# Altium schematic symbol library Schlib1.SchLib: 823 symbols (part 1 of 12)
Pins are listed as number, name and electrical type; pins without a type are passive.

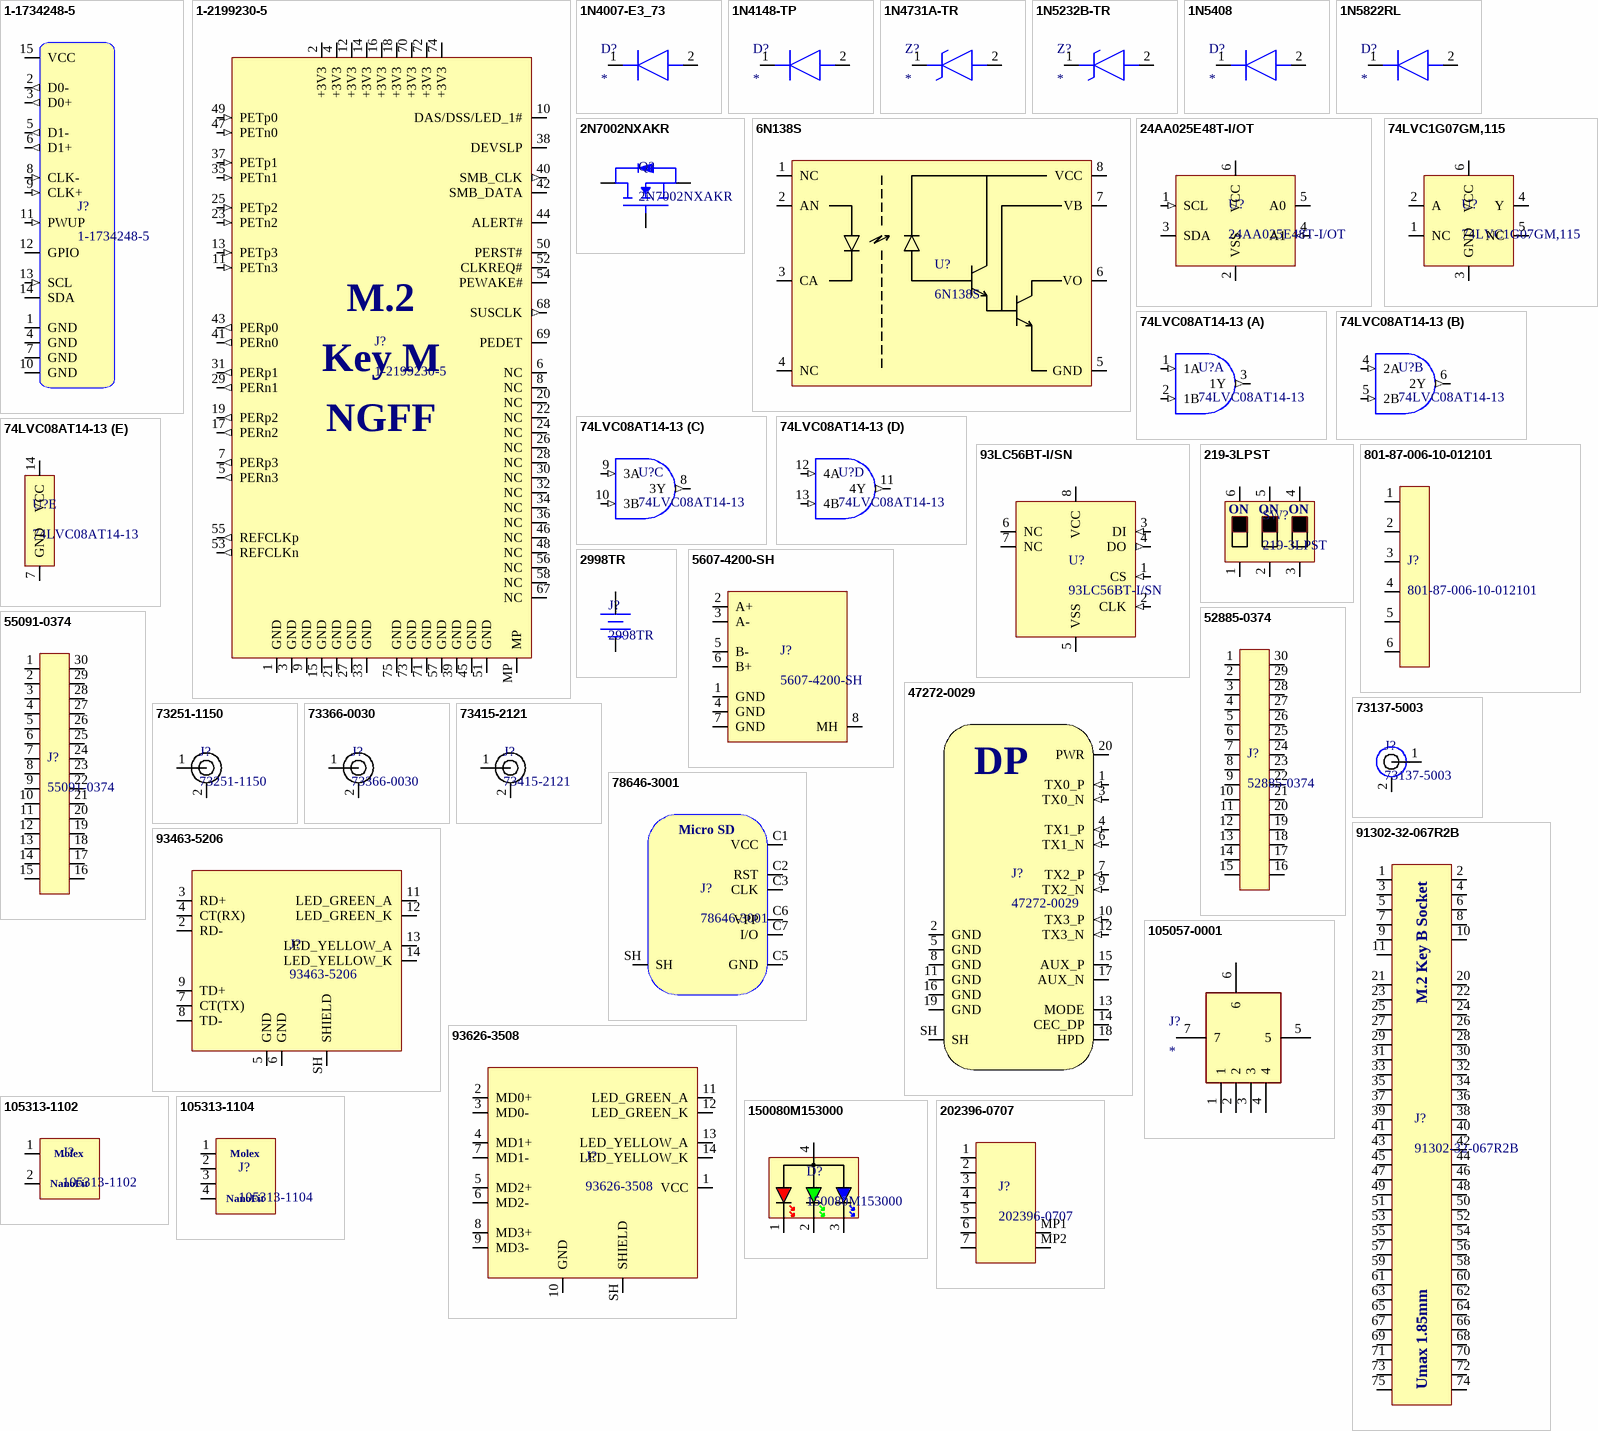
[diagram p0: symbols 1-1734248-5 to 202396-0707]

## 1-1734248-5
designator J?
FFC & FPC Connectors 15P 1.0 FPC, Zip V/T SMT; Manufacturer: TE Connectivity; Manufacturer Part Number: 1-1734248-5; Distributor Link: https://www.mouser.de/ProductDetail/TE-Connectivity/1-1734248-5?qs=sGAEpiMZZMvlX3nhDDO4AGJoiHpVI%252BrLj36UQiWnLiQ%3D; LCSC: C2922285
footprint 1-1734248-5
pins: 1 GND (power), 2 D0- (out), 3 D0+ (out), 4 GND (power), 5 D1- (out), 6 D1+ (out), 7 GND (power), 8 CLK- (in), 9 CLK+ (in), 10 GND (power), 11 PWUP (in), 12 GPIO (io), 13 SCL (in), 14 SDA (io), 15 VCC (power)

## 1-2199230-5
designator J?  (no BOM)
M.2 NGFF Key M Card Edge Connector 0.5mm Pitch 67 Position 4.2mm Height; Manufacturer: TE Connectivity; Manufacturer Part Number: 1-2199230-5; Distributor Link: https://eu.mouser.com/ProductDetail/TE-Connectivity/1-2199230-5?qs=N0TJGnUfxCD5L9UvFjPEwQ%3D%3D; LCSC: C590854
footprint 1-2199230-5
pins: 1 GND (power), 2 +3V3 (power), 3 GND (power), 4 +3V3 (power), 5 PERn3 (out), 6 NC, 7 PERp3 (out), 8 NC, 9 GND (power), 10 DAS/DSS/LED_1#, 11 PETn3 (in), 12 +3V3 (power), 13 PETp3 (in), 14 +3V3 (power), 15 GND (power), 16 +3V3 (power), 17 PERn2 (out), 18 +3V3 (power), 19 PERp2 (out), 20 NC, 21 GND (power), 22 NC, 23 PETn2 (in), 24 NC, 25 PETp2 (in), 26 NC, 27 GND (power), 28 NC, 29 PERn1 (out), 30 NC, 31 PERp1 (out), 32 NC, 33 GND (power), 34 NC, 35 PETn1 (in), 36 NC, 37 PETp1 (in), 38 DEVSLP, 39 GND (power), 40 SMB_CLK (out), 41 PERn0 (out), 42 SMB_DATA (io), 43 PERp0 (out), 44 ALERT#, 45 GND (power), 46 NC, 47 PETn0 (in), 48 NC, 49 PETp0 (in), 50 PERST#, 51 GND (power), 52 CLKREQ#, 53 REFCLKn (out), 54 PEWAKE#, 55 REFCLKp (out), 56 NC, 57 GND (power), 58 NC, 67 NC, 68 SUSCLK (out), 69 PEDET, 70 +3V3 (power), 71 GND (power), 72 +3V3 (power), 73 GND (power), 74 +3V3 (power), 75 GND (power), MP (power)
text: M.2; Key M; NGFF

## 1N4007-E3_73
designator D?
Diode; Manufacturer_Name: Vishay; Manufacturer_Part_Number: 1N4007-E3/73; Datasheet Link: https://mouser.componentsearchengine.com/Datasheets/2/1N4007-E3_73.pdf; Mouser Part Number: 625-1N4007-E3/73; Mouser Price/Stock: https://www.mouser.co.uk/ProductDetail/Vishay-General-Semiconductor/1N4007-E3-73?qs=N4vtoAxH%2FSqT3Ng3e4K0Gw%3D%3D; Arrow Part Number: 1N4007-E3/73; Arrow Price/Stock: https://www.arrow.com/en/products/1n4007-e373/vishay?utm_currency=USD&region=europe
footprint DIOAD1405W86L465D235
pins: 1 K, 2 A

## 1N4148-TP
designator D?
Diode; Manufacturer_Name: MCC; Manufacturer_Part_Number: 1N4148-TP; Datasheet Link: https://datasheet.datasheetarchive.com/originals/distributors/Datasheets_SAMA/a133e21e9f85d77be1f89cbddda842d3.pdf; Mouser Part Number: 833-1N4148-TP; Mouser Price/Stock: https://www.mouser.co.uk/ProductDetail/Micro-Commercial-Components-MCC/1N4148-TP?qs=WKjw%2FjEc%2FjNjhjv2m2YYjw%3D%3D; Arrow Part Number: 1N4148-TP; Arrow Price/Stock: https://www.arrow.com/en/products/1n4148-tp/micro-commercial-components?region=nac
footprint DIOAD1220W52L420D200
pins: 1 K, 2 A

## 1N4731A-TR
designator Z?
Zener Diode; Manufacturer_Name: Vishay; Manufacturer_Part_Number: 1N4731A-TR; Datasheet Link: https://datasheet.datasheetarchive.com/originals/distributors/Datasheets-314/271599.pdf; Mouser Part Number: 78-1N4731A; Mouser Price/Stock: https://www.mouser.co.uk/ProductDetail/Vishay-Semiconductors/1N4731A-TR?qs=oNDV51lhjEN87sfLnBRrvg%3D%3D; Arrow Part Number: 1N4731A-TR; Arrow Price/Stock: https://www.arrow.com/en/products/1n4731a-tr/vishay
footprint DIOAD1310W86L370D235
pins: 1 K, 2 A

## 1N5232B-TR
designator Z?
Zener Diode; Manufacturer_Name: Vishay; Manufacturer_Part_Number: 1N5232B-TR; Datasheet Link: https://www.vishay.com/docs/85588/1n5221.pdf; Mouser Part Number: 78-1N5232B; Mouser Price/Stock: https://www.mouser.co.uk/ProductDetail/Vishay-Semiconductors/1N5232B-TR?qs=TNTIDjy6APrTslQIiZV26Q%3D%3D; Arrow Part Number: 1N5232B-TR; Arrow Price/Stock: https://www.arrow.com/en/products/1n5232b-tr/vishay?region=nac
footprint DIOAD990W55L350D160
pins: 1 K, 2 A

## 1N5408
designator D?
Diode; Manufacturer_Name: HY Electronic; Manufacturer_Part_Number: 1N5408; Datasheet Link: http://uk.rs-online.com/web/p/products/9033315
footprint DIOAD3020W130L900D530
pins: 1 K, 2 A

## 1N5822RL
designator D?
Diode; Manufacturer_Name: STMicroelectronics; Manufacturer_Part_Number: 1N5822RL; Datasheet Link: http://www.st.com/web/en/resource/technical/document/datasheet/CD00001626.pdf; Mouser Part Number: 511-1N5822-TR; Mouser Price/Stock: https://www.mouser.co.uk/ProductDetail/STMicroelectronics/1N5822RL?qs=7w4CAYqbMj3Og2p4%2Fm2SJg%3D%3D; Arrow Part Number: 1N5822RL; Arrow Price/Stock: https://www.arrow.com/en/products/1n5822rl/stmicroelectronics?region=europe
footprint DIOAD3070W130L950D530
pins: 1 K, 2 A

## 2N7002NXAKR
designator Q?
MOSFET N-Channel Vds=60V Id=300mA with ESD Protection; Manufacturer: Nexperia; Manufacturer Part Number: 2N7002NXAKR
footprint SSM3J338R,LF-SOT23-F
pins: D, G, S

## 6N138S
designator U?
Single-Channel, High-Speed Optocoupler; Manufacturer: Lite-On; Manufacturer Part Number: 6N138S; Distributor Link: https://www.mouser.de/ProductDetail/Lite-On/6N138S?qs=PByDJ0nQNwpiJNZ8Mk8Kdw%3D%3D
footprint SMD-8
pins: 1 NC, 2 AN, 3 CA, 4 NC, 5 GND (power), 6 VO (oc), 7 VB (power), 8 VCC (power)

## 24AA025E48T-I/OT
designator U?
2-Kbit I2C Serial EEPROMs with EUI-48™ Node Identity; Manufacturer: Microchip; Manufacturer Part Number: 24AA025E48T-I/OT; Distributor Link: https://www.mouser.de/ProductDetail/Microchip-Technology/24AA025E48T-I-OT?qs=GCDK0xhvQh4RRiPFFnzHdA%3D%3D; LCSC: C129895
footprint SOT-23-6
pins: 1 SCL (in), 2 VSS (power), 3 SDA (io), 4 A1 (in), 5 A0 (power), 6 VCC (power)

## 74LVC1G07GM,115
designator U?
Open-Drain Buffer 3.3V/5V Non-Inverting XSON-6; Manufacturer: Nexperia; Manufacturer Part Number: 74LVC1G07GM,115
footprint XSON-6-SOT1202 (SON, 6-Leads, Body 0.98x1.00mm, Pitch 0.35mm, IPC Medium Density)
pins: 1 NC, 2 A, 3 GND, 4 Y, 5 NC, 6 VCC

## 74LVC08AT14-13
designator U?
QUADRUPLE 2-INPUT CMOS AND GATES; Manufacturer: Diodes Incorporated; Manufacturer Part Number: 74LVC08AT14-13; Distributor Link: https://eu.mouser.com/ProductDetail/Diodes-Incorporated/74LVC08AT14-13?qs=ZtY9WdtwX5535dJGuTpaIA%3D%3D
footprint TSSOP-14
part A pins: 1 1A (in), 2 1B (in), 3 1Y (out)
part B pins: 4 2A (in), 5 2B (in), 6 2Y (out)
part C pins: 8 3Y (out), 9 3A (in), 10 3B (in)
part D pins: 11 4Y (out), 12 4A (in), 13 4B (in)
part E pins: 7 GND (power), 14 VCC (power)

## 93LC56BT-I/SN
designator U?
2K Microwire Compatible Serial EEPROM; Manufacturer: Microchip; Manufacturer Part Number: 93LC56BT-I/SN; Distributor Link: https://www.mouser.de/ProductDetail/Microchip-Technology/93LC56BT-I-SN?qs=lQv0JY93vreW%252BBssv4v8RA%3D%3D; LCSC: C6164
footprint SOIC-8 (SOIC, 8-Leads, Body 4.91x3.90mm, Pitch 1.27mm, IPC Medium Density)
pins: 1 CS (in), 2 CLK (in), 3 DI (in), 4 DO (out), 5 VSS (power), 6 NC, 7 NC, 8 VCC (power)

## 219-3LPST
designator SW?
DIP Switches SPST 3x; Manufacturer: CTS; Manufacturer Part Number: 219-3LPST
footprint 219-3LPST
pins: 1, 2, 3, 4, 5, 6
text: ON

## 801-87-006-10-012101
designator J?
Pin Socket 6 Position 2.54mm Pitch; Manufacturer: preci-dip; Manufacturer Part Number: 801-87-006-10-012101
footprint 801-87-006-10-012101
pins: 1, 2, 3, 4, 5, 6

## 2998TR
designator J?
Coin Cell Battery Holder 6.8mm; Manufacturer: Keystone Electronics; Manufacturer Part Number: 2998TR
footprint 2998TR (6.8mm Coin Cell Holder SMD)
pins: A, K

## 5607-4200-SH
designator J?
SATA Connector 7-Position 1.27mm Pitch Male Right Angle SMD; Manufacturer: 3M; Manufacturer Part Number: 5607-4200-SH
footprint 5607-4200-SH
pins: 1 GND, 2 A+, 3 A-, 4 GND, 5 B-, 6 B+, 7 GND, 8 MH

## 47272-0029
designator J?
DisplayPort Male Receptacle, Right-Angle, Surface Mount, 0.76µm Gold (Au) Plating, 20 Circuits, 0.50mm Pitch, without Cover, Lead-Free; Manufacturer: Molex; Manufacturer Part Number: 47272-0029; Distributor Link: https://eu.mouser.com/ProductDetail/Molex/47272-0029?qs=R8Vl3J6srxyrbHtT7SkUeQ%3D%3D
footprint 47272-0029
pins: 1 TX0_P (in), 2 GND (power), 3 TX0_N (in), 4 TX1_P (in), 5 GND (power), 6 TX1_N (in), 7 TX2_P (in), 8 GND (power), 9 TX2_N (in), 10 TX3_P (in), 11 GND (power), 12 TX3_N (in), 13 MODE, 14 CEC_DP, 15 AUX_P (io), 16 GND (power), 17 AUX_N (io), 18 HPD, 19 GND (power), 20 PWR (power), SH
text: DP

## 52885-0374
designator J?
SlimStack Board-to-Board Connector, 0.635mm Pitch, 0.635 Series, Receptacle, 6.00 to 10.00mm Mated Height, 6.40mm Mated Width, 30 Circuits; Manufacturer: Molex; Manufacturer Part Number: 52885-0374
footprint 52885-0374
pins: 1, 2, 3, 4, 5, 6, 7, 8, 9, 10, 11, 12, 13, 14, 15, 16, 17, 18, 19, 20, 21, 22, 23, 24, 25, 26, 27, 28, 29, 30

## 55091-0374
designator J?
SlimStack Board-to-Board Connector, 0.635mm Pitch, 0.635 Series, Plug, 6.00 or 12.00mm Mated Height, 6.40mm Mated Width, 30 Circuits; Manufacturer: Molex; Manufacturer Part Number: 55091-0374
footprint 55091-0374
pins: 1, 2, 3, 4, 5, 6, 7, 8, 9, 10, 11, 12, 13, 14, 15, 16, 17, 18, 19, 20, 21, 22, 23, 24, 25, 26, 27, 28, 29, 30

## 73137-5003
designator J?
BNC 50 Ohm, Right-Angle PCB Bulkhead Jack Receptacle, Panel Isolated, Black PBT Housing, Housing Height 13.20mm; Manufacturer: Molex; Manufacturer Part Number: 73137-5003
footprint 73137-5003
pins: 1, 2

## 73251-1150
designator J?
RF Connector 50 Ohms, SMA Jack Receptacle, Edge Mount, .25µm Gold (Au) Plating; Manufacturer: Molex; Manufacturer Part Number: 73251-1150
footprint 73251-1150
pins: 1, 2

## 73366-0030
designator J?
50 Ohms, MCX PCB Jack Receptacle, Right-Angle, 80; Manufacturer: Molex; Manufacturer Part Number: 73366-0030
footprint 73366-0030
pins: 1, 2

## 73415-2121
designator J?
RF Connector 50 Ohms, MMCX Vertical Plug, PCB, Plating Per Commercial Requirements, Bulk; Manufacturer: Molex; Manufacturer Part Number: 73415-2121
footprint 73415-2121
pins: 1, 2

## 78646-3001
designator J?
micro-SIM Card Socket without Detect Switch, 1.45mm Height, Push-Pull Eject, Surface Mount, 6 Circuits, Low-Halogen, Lead-Free; Manufacturer: Molex; Manufacturer Part Number: 78646-3001
footprint 78646-3001
pins: C1 VCC, C2 RST, C3 CLK, C5 GND, C6 VPP, C7 I/O, SH
text: Micro SD

## 91302-32-067R2B
designator J?
M.2 Key B Card Edge Connector 67 Position 0.5mm Pitch 1.85mm Card Height; Manufacturer: Umax; Manufacturer Part Number: 91302-32-067R2B; Distributor Link: https://www.lcsc.com/product-detail/Card-Edge-Connectors_UMAX-91302-32-067R2B_C1509731.html; LCSC: C1509731
footprint 91302-32-067R2B
pins: 1, 2, 3, 4, 5, 6, 7, 8, 9, 10, 11, 20, 21, 22, 23, 24, 25, 26, 27, 28, 29, 30, 31, 32, 33, 34, 35, 36, 37, 38, 39, 40, 41, 42, 43, 44, 45, 46, 47, 48, 49, 50, 51, 52, 53, 54, 55, 56, 57, 58, 59, 60, 61, 62, 63, 64, 65, 66, 67, 68, 69, 70, 71, 72, 73, 74, 75
text: M.2 Key B Socket; Umax 1.85mm

## 93463-5206
designator J?
MXMag Gigabit Ethernet 8 Core Non-PoE Single-Port RJ45 Connector, 21.40mm Depth, 3.30mm Phy Pin Length, Right-Angle, Inverted Profile, with Shield Tabs, with Green-Green LEDs, Standard Temperature, with 2kV Shield Connection, Tray; Manufacturer: Molex; Manufacturer Part Number: 93463-5206
footprint 93463-5206
pins: 2 RD- (io), 3 RD+ (io), 4 CT(RX), 5 GND (power), 6 GND (power), 7 CT(TX), 8 TD- (io), 9 TD+ (io), 11 LED_GREEN_A, 12 LED_GREEN_K, 13 LED_YELLOW_A, 14 LED_YELLOW_K, SH SHIELD (power)

## 93626-3508
designator J?
MXMag Gigabit Ethernet 8 Core Non-PoE Single-Port RJ45 Connector, 21.40mm Depth, 3.30mm Phy Pin Length, Right-Angle, Standard Profile, with Shield Tabs, with Green/Yellow-Green/Yellow LEDs, Standard Temperature, with 2kV Shield Connection; Manufacturer: Molex; Manufacturer Part Number: 93626-3508
footprint 93626-3508
pins: 1 VCC, 2 MD0+, 3 MD0-, 4 MD1+, 5 MD2+, 6 MD2-, 7 MD1-, 8 MD3+, 9 MD3-, 10 GND, 11 LED_GREEN_A, 12 LED_GREEN_K, 13 LED_YELLOW_A, 14 LED_YELLOW_K, SH SHIELD

## 105057-0001
designator J?
Connector; Manufacturer_Name: Molex; Manufacturer_Part_Number: 105057-0001; Datasheet Link: https://www.molex.com/content/dam/molex/molex-dot-com/products/automated/en-us/salesdrawingpdf/105/105057/1050570001_sd.pdf?inline; Height: 10.5mm; Mouser Part Number: 538-105057-0001; Mouser Price/Stock: https://www.mouser.co.uk/ProductDetail/Molex/105057-0001?qs=3OKVfsn1b5CF9LM7npexZw%3D%3D
footprint 1050570001
pins: 1, 2, 3, 4, 5, 6, 7

## 105313-1102
designator J?
Nano-Fit Right-Angle Header, Through Hole, 2.50mm Pitch, Single Row, 2 Circuits, Tin (Sn) Plating, Black, Glow-Wire Capable, Tray; Manufacturer: Molex; Manufacturer Part Number: 105313-1102
footprint 105313-1102
pins: 1, 2
text: NanoFit

## 105313-1104
designator J?
Nano-Fit Right-Angle Header, Through Hole, 2.50mm Pitch, Single Row, 2 Circuits, Tin (Sn) Plating, Black, Glow-Wire Capable, Tray; Manufacturer: Molex; Manufacturer Part Number: 105313-1104
footprint 105313-1104
pins: 1, 2, 3, 4
text: NanoFit

## 150080M153000
designator D?
RGB LED Common Anode SMD Diffused 0805 Top View; Manufacturer: Wurth; Manufacturer Part Number: 150080M153000; Distributor Link: https://www.mouser.de/ProductDetail/Wurth-Elektronik/150080M153000?qs=5aG0NVq1C4wI5cZ2wabu5A%3D%3D
footprint 150080M153000
pins: 1 CR, 2 CG, 3 CB, 4 AC

## 202396-0707
designator J?
1.00mm Pitch, Pico-Clasp PCB Header, Single Row, Right-Angle, Surface Mount, 0.10µm Gold Plated, Inner Positive Lock, 7 Circuits, Natural; Manufacturer: Molex; Manufacturer Part Number: 202396-0707
footprint 202396-0707
pins: 1, 2, 3, 4, 5, 6, 7, MP1, MP2

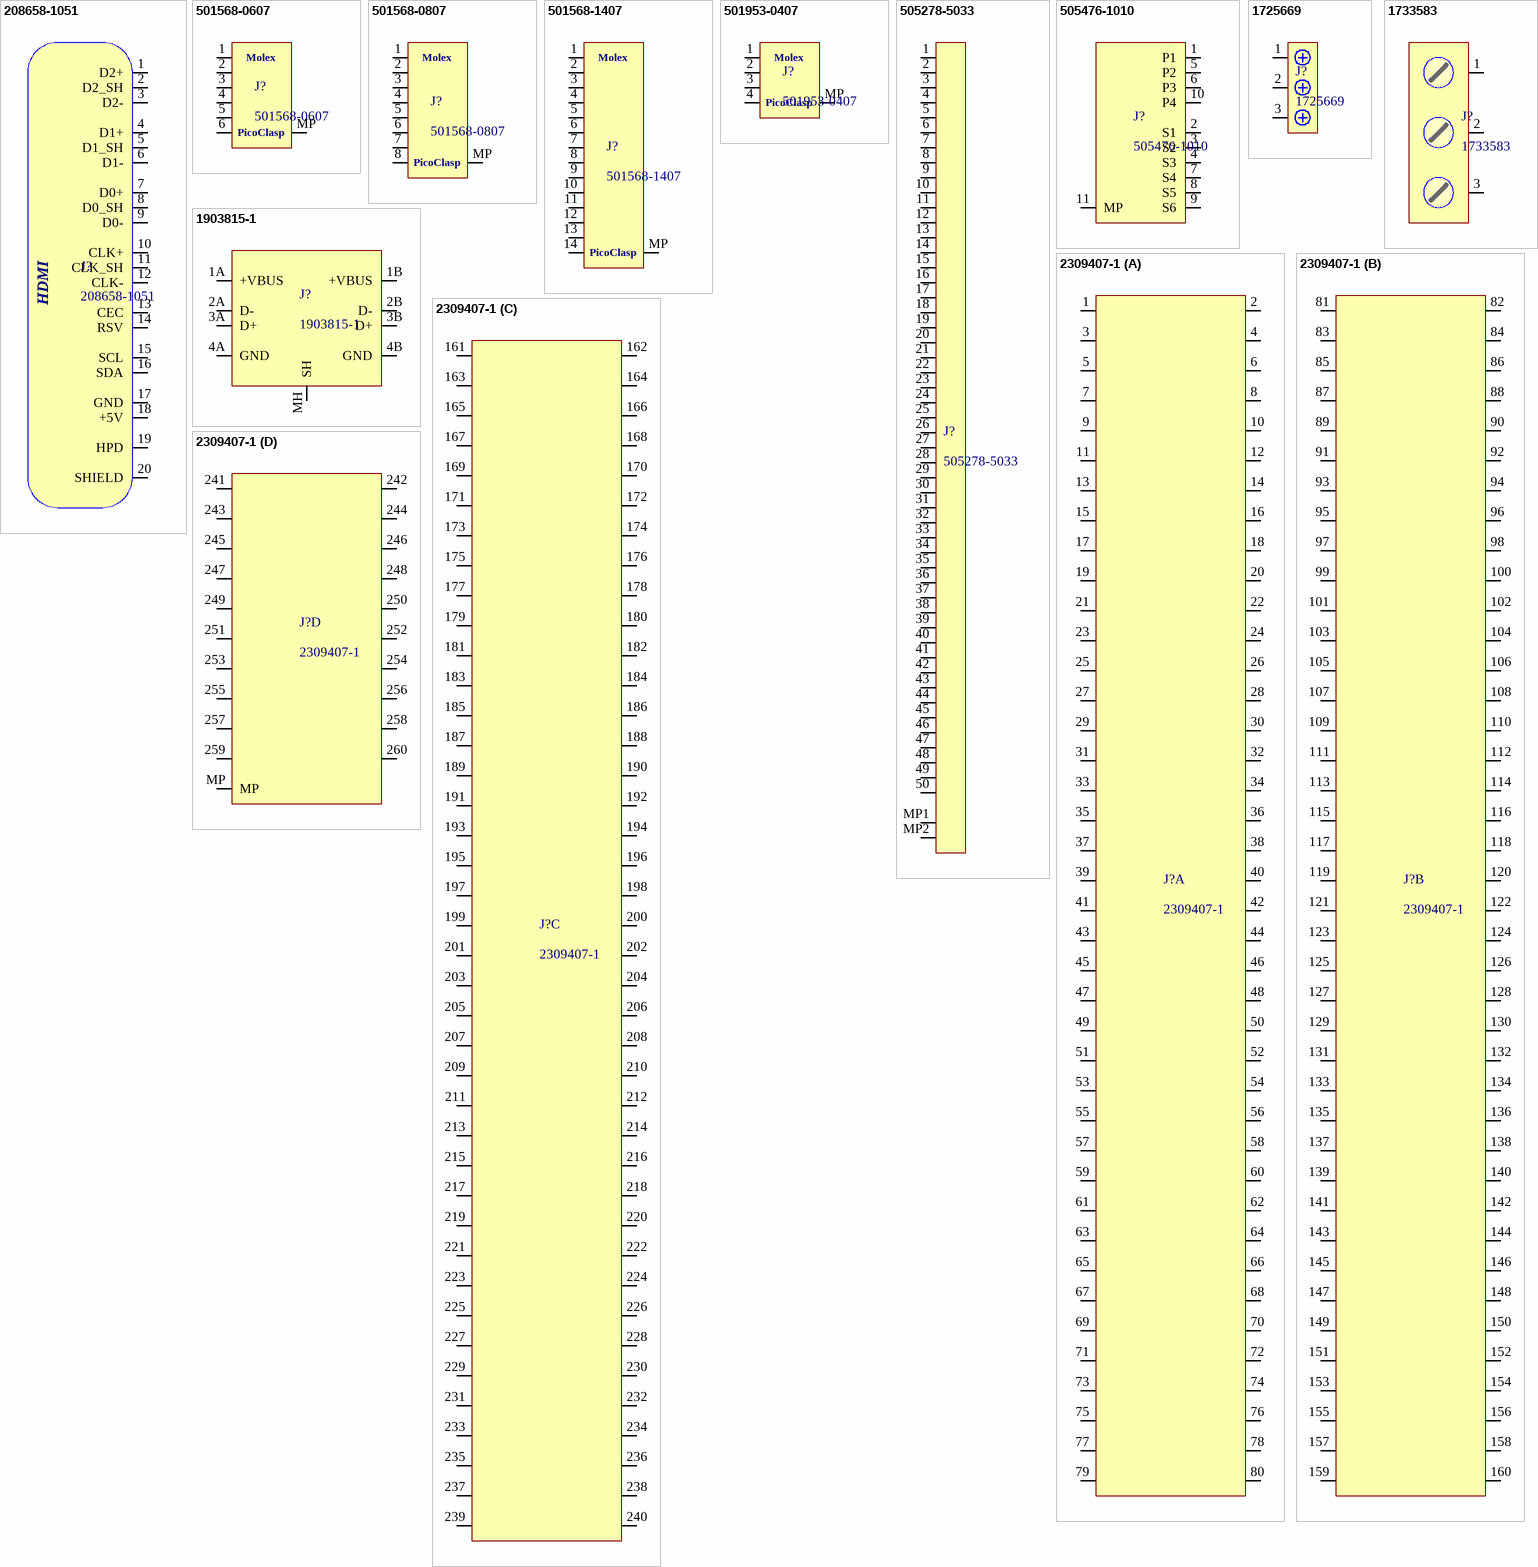
[diagram p1: symbols 208658-1051 to 2309407-1]

## 208658-1051
designator J?
HDMI v2.1 Receptacle, Right-Angle, Gold Flash Plating, without Mylar, without Flange, Tape and Reel, 19 Circuits; Manufacturer: Molex; Manufacturer Part Number: 208658-1051
footprint 208658-1051
pins: 1 D2+, 2 D2_SH, 3 D2-, 4 D1+, 5 D1_SH, 6 D1-, 7 D0+, 8 D0_SH, 9 D0-, 10 CLK+, 11 CLK_SH, 12 CLK-, 13 CEC, 14 RSV, 15 SCL, 16 SDA, 17 GND, 18 +5V, 19 HPD, 20 SHIELD
text: HDMI

## 501568-0607
designator J?
1.00mm Pitch, Pico-Clasp PCB Header, Single Row, Right-Angle, Surface Mount, Tin Plated, Outer Positive Lock, 6 Circuits, Natural; Manufacturer: Molex; Manufacturer Part Number: 501568-0607
footprint 501568-0607
pins: 1, 2, 3, 4, 5, 6, MP
text: PicoClasp

## 501568-0807
designator J?
1.00mm Pitch, Pico-Clasp PCB Header, Single Row, Right-Angle, Surface Mount, Tin Plated, Outer Positive Lock, 8 Circuits, Natural; Manufacturer: Molex; Manufacturer Part Number: 501568-0807
footprint 501568-0807
pins: 1, 2, 3, 4, 5, 6, 7, 8, MP
text: PicoClasp

## 501568-1407
designator J?
1.00mm Pitch, Pico-Clasp PCB Header, Single Row, Right-Angle, Surface Mount, Tin Plated, Outer Positive Lock, 14 Circuits, Natural; Manufacturer: Molex; Manufacturer Part Number: 501568-1407
footprint 501568-1407
pins: 1, 2, 3, 4, 5, 6, 7, 8, 9, 10, 11, 12, 13, 14, MP
text: PicoClasp

## 501953-0407
designator J?
1.00mm Pitch, Pico-Clasp PCB Header, Single Row, Right-Angle, Surface Mount, 1.01µm Tin Plated, Outer Positive Lock, 4 Circuits, Natural; Manufacturer: Molex; Manufacturer Part Number: 501953-0407
footprint 501953-0407
pins: 1, 2, 3, 4, MP
text: PicoClasp

## 505278-5033
designator J?
FFC Connector 50 Position 0.5mm Pitch Bottom Contact ZIF; Manufacturer: Molex; Manufacturer Part Number: 505278-5033
footprint 505278-5033
pins: 1, 2, 3, 4, 5, 6, 7, 8, 9, 10, 11, 12, 13, 14, 15, 16, 17, 18, 19, 20, 21, 22, 23, 24, 25, 26, 27, 28, 29, 30, 31, 32, 33, 34, 35, 36, 37, 38, 39, 40, 41, 42, 43, 44, 45, 46, 47, 48, 49, 50, MP1, MP2

## 505476-1010
designator J?
SlimStack Board-to-Board Plug, 0.40mm Pitch, Battery Series, 0.60mm Mated Height, 2.00mm Mated Width, 10 Circuits, 10.0A; Manufacturer: Molex; Manufacturer Part Number: 505476-1010
footprint 505476-1010
pins: 1 P1 (power), 2 S1 (io), 3 S2 (io), 4 S3 (io), 5 P2 (power), 6 P3 (power), 7 S4 (io), 8 S5 (io), 9 S6 (io), 10 P4 (power), 11 MP

## 1725669
designator J?
Screw Terminal Block 3 Positions 2.54mm; Manufacturer: Phoenix; Manufacturer Part Number: 1725669; Distributor Link: https://www.mouser.de/ProductDetail/Phoenix-Contact/1725669?qs=A%2FKWGUWTCZjmkTL0Oe91ew%3D%3D
footprint 1725669
pins: 1, 2, 3

## 1733583
designator J?
Screw Terminal 3 Position 5.08mm Pitch Phoenix; Manufacturer: Phoenix Contact; Manufacturer Part Number: 1733583
footprint 1733583
pins: 1, 2, 3

## 1903815-1
designator J?
USB Connectors, A, 2.0, Standard Profile, Female Receptacle, 2 Port, Top, Right Angle, IP20, Offset, Industrial USB IP20; Manufacturer: TE Connectivity; Manufacturer Part Number: 1903815-1
footprint 1903815-1
pins: 1A +VBUS, 1B +VBUS, 2A D-, 2B D-, 3A D+, 3B D+, 4A GND, 4B GND, MH SH

## 2309407-1
designator J?
SO DIMM Socket, Small Outline (SO), Stack Height .157 in [4 mm], Right Angle Module Orientation, 260 Position, DDR4 DIMM; Manufacturer: TE Connectivity; Manufacturer Part Number: 2309407-1
footprint 2309407-1
part A pins: 1, 2, 3, 4, 5, 6, 7, 8, 9, 10, 11, 12, 13, 14, 15, 16, 17, 18, 19, 20, 21, 22, 23, 24, 25, 26, 27, 28, 29, 30, 31, 32, 33, 34, 35, 36, 37, 38, 39, 40, 41, 42, 43, 44, 45, 46, 47, 48, 49, 50, 51, 52, 53, 54, 55, 56, 57, 58, 59, 60, 61, 62, 63, 64, 65, 66, 67, 68, 69, 70, 71, 72, 73, 74, 75, 76, 77, 78, 79, 80
part B pins: 81, 82, 83, 84, 85, 86, 87, 88, 89, 90, 91, 92, 93, 94, 95, 96, 97, 98, 99, 100, 101, 102, 103, 104, 105, 106, 107, 108, 109, 110, 111, 112, 113, 114, 115, 116, 117, 118, 119, 120, 121, 122, 123, 124, 125, 126, 127, 128, 129, 130, 131, 132, 133, 134, 135, 136, 137, 138, 139, 140, 141, 142, 143, 144, 145, 146, 147, 148, 149, 150, 151, 152, 153, 154, 155, 156, 157, 158, 159, 160
part C pins: 161, 162, 163, 164, 165, 166, 167, 168, 169, 170, 171, 172, 173, 174, 175, 176, 177, 178, 179, 180, 181, 182, 183, 184, 185, 186, 187, 188, 189, 190, 191, 192, 193, 194, 195, 196, 197, 198, 199, 200, 201, 202, 203, 204, 205, 206, 207, 208, 209, 210, 211, 212, 213, 214, 215, 216, 217, 218, 219, 220, 221, 222, 223, 224, 225, 226, 227, 228, 229, 230, 231, 232, 233, 234, 235, 236, 237, 238, 239, 240
part D pins: 241, 242, 243, 244, 245, 246, 247, 248, 249, 250, 251, 252, 253, 254, 255, 256, 257, 258, 259, 260, MP

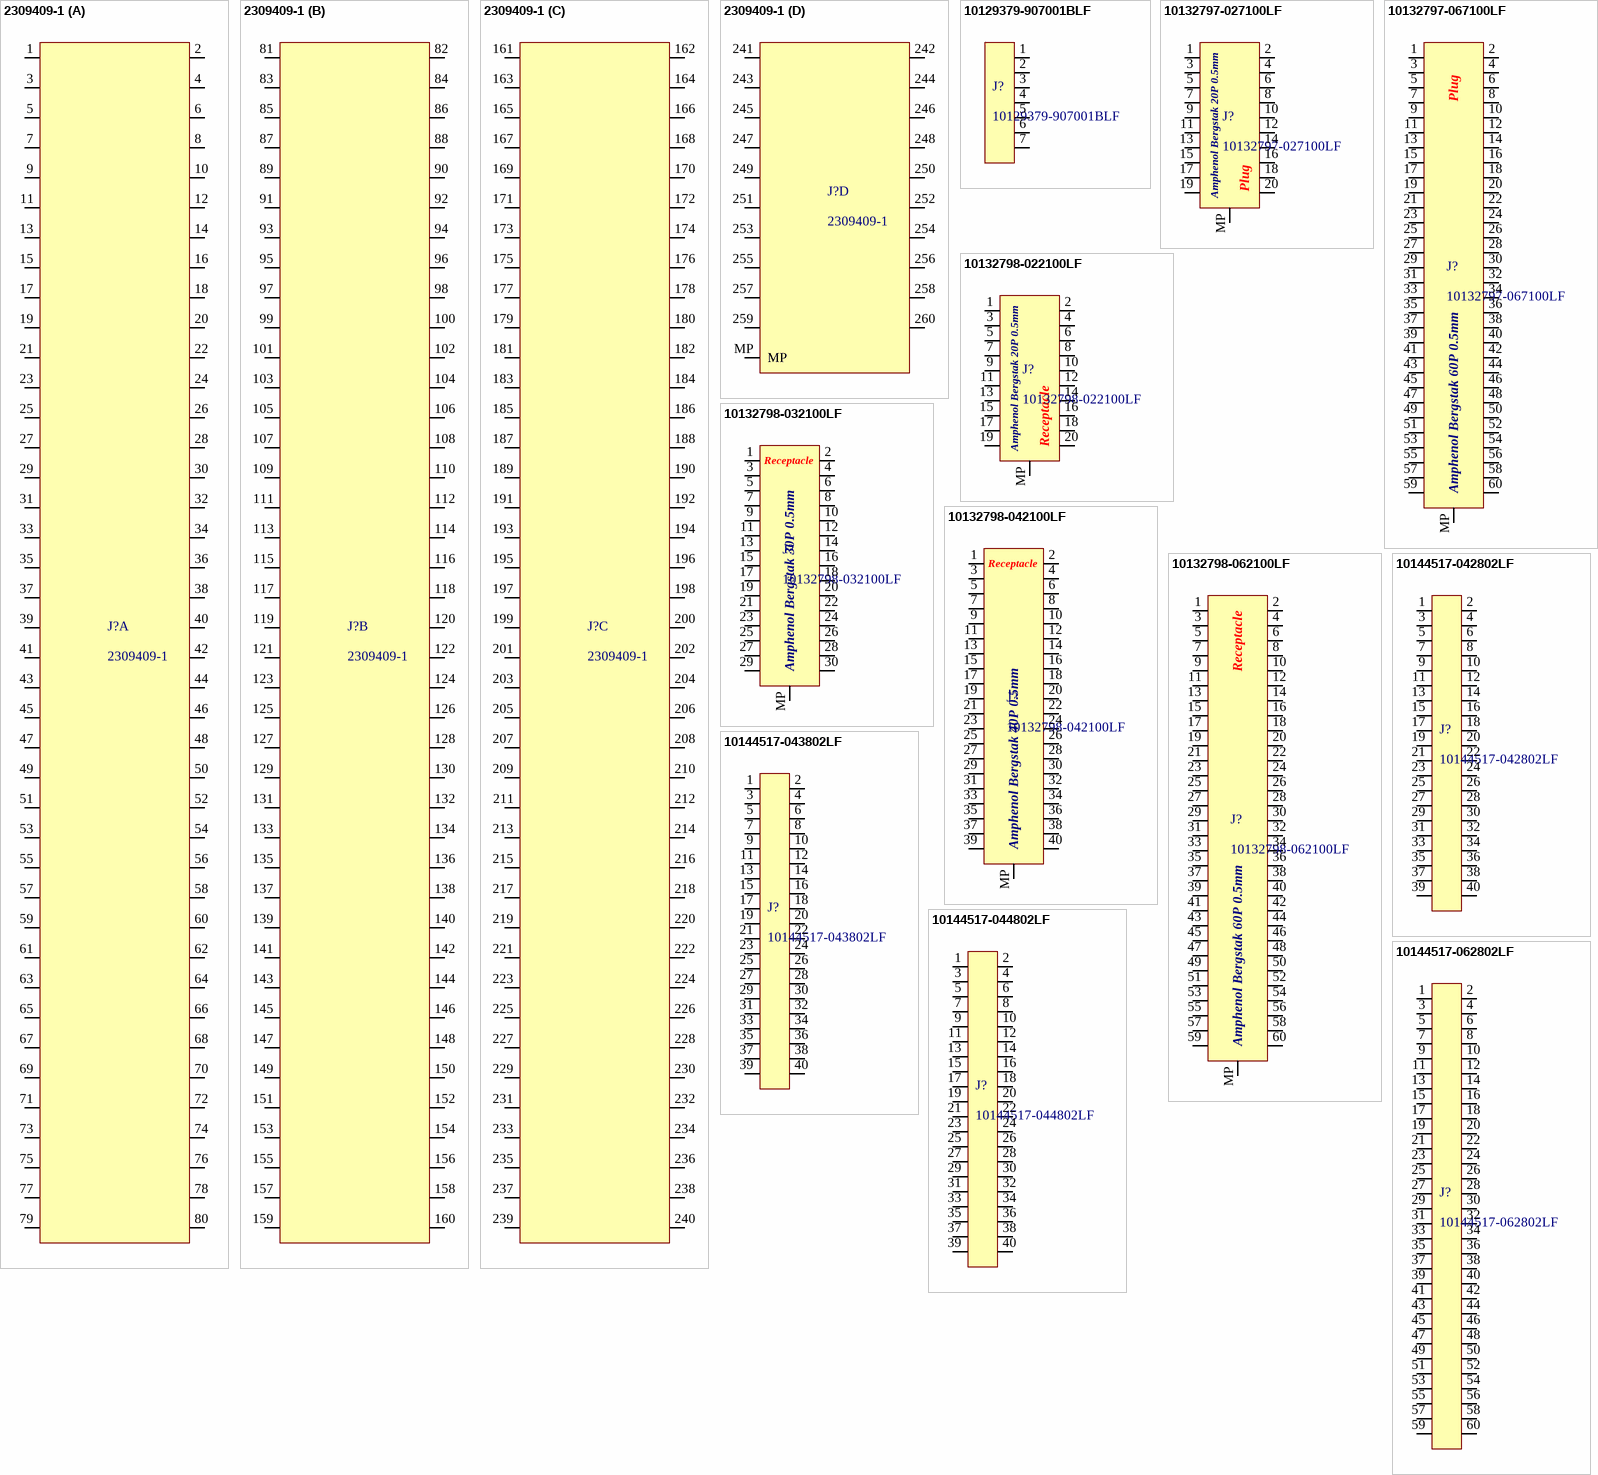
[diagram p2: symbols 2309409-1 to 10144517-062802LF]

## 2309409-1
designator J?
SO DIMM Socket, Small Outline (SO), Stack Height .205 in [5.2 mm], Right Angle Module Orientation, 260 Position, DDR4 DIMM; Manufacturer: TE Connectivity; Manufacturer Part Number: 2309409-1
footprint 2309409-1
part A pins: 1, 2, 3, 4, 5, 6, 7, 8, 9, 10, 11, 12, 13, 14, 15, 16, 17, 18, 19, 20, 21, 22, 23, 24, 25, 26, 27, 28, 29, 30, 31, 32, 33, 34, 35, 36, 37, 38, 39, 40, 41, 42, 43, 44, 45, 46, 47, 48, 49, 50, 51, 52, 53, 54, 55, 56, 57, 58, 59, 60, 61, 62, 63, 64, 65, 66, 67, 68, 69, 70, 71, 72, 73, 74, 75, 76, 77, 78, 79, 80
part B pins: 81, 82, 83, 84, 85, 86, 87, 88, 89, 90, 91, 92, 93, 94, 95, 96, 97, 98, 99, 100, 101, 102, 103, 104, 105, 106, 107, 108, 109, 110, 111, 112, 113, 114, 115, 116, 117, 118, 119, 120, 121, 122, 123, 124, 125, 126, 127, 128, 129, 130, 131, 132, 133, 134, 135, 136, 137, 138, 139, 140, 141, 142, 143, 144, 145, 146, 147, 148, 149, 150, 151, 152, 153, 154, 155, 156, 157, 158, 159, 160
part C pins: 161, 162, 163, 164, 165, 166, 167, 168, 169, 170, 171, 172, 173, 174, 175, 176, 177, 178, 179, 180, 181, 182, 183, 184, 185, 186, 187, 188, 189, 190, 191, 192, 193, 194, 195, 196, 197, 198, 199, 200, 201, 202, 203, 204, 205, 206, 207, 208, 209, 210, 211, 212, 213, 214, 215, 216, 217, 218, 219, 220, 221, 222, 223, 224, 225, 226, 227, 228, 229, 230, 231, 232, 233, 234, 235, 236, 237, 238, 239, 240
part D pins: 241, 242, 243, 244, 245, 246, 247, 248, 249, 250, 251, 252, 253, 254, 255, 256, 257, 258, 259, 260, MP

## 10129379-907001BLF
designator J?
EconoStik™ 2.54mm, Board to Board Connector, Unshrouded Right Angled Header, Through Hole, Single Row, 7 Positions, 2.54 mm (0.100in) Pitch; Manufacturer: Amphenol; Manufacturer Part Number: 10129379-907001BLF
footprint 10129379-907001BLF
pins: 1, 2, 3, 4, 5, 6, 7

## 10132797-027100LF
designator J?
BergStak® 0.5mm Mezzanine Connector, Board To Board Connectors, 20 position, 5.3mm height plug connector; Manufacturer: Amphenol; Manufacturer Part Number: 10132797-027100LF
footprint 10132797-027100LF
pins: 1, 2, 3, 4, 5, 6, 7, 8, 9, 10, 11, 12, 13, 14, 15, 16, 17, 18, 19, 20, MP
text: Amphenol Bergstak 20P 0.5mm; Plug

## 10132797-067100LF
designator J?
BergStak® 0.5mm Mezzanine Connector, Board To Board Connectors, 60 position, 5.3mm height plug connector; Manufacturer: Amphenol; Manufacturer Part Number: 10132797-067100LF
footprint 10132797-067100LF
pins: 1, 2, 3, 4, 5, 6, 7, 8, 9, 10, 11, 12, 13, 14, 15, 16, 17, 18, 19, 20, 21, 22, 23, 24, 25, 26, 27, 28, 29, 30, 31, 32, 33, 34, 35, 36, 37, 38, 39, 40, 41, 42, 43, 44, 45, 46, 47, 48, 49, 50, 51, 52, 53, 54, 55, 56, 57, 58, 59, 60, MP
text: Plug; Amphenol Bergstak 60P 0.5mm

## 10132798-022100LF
designator J?
BergStak® 0.5mm Mezzanine Connector, Board To Board Connectors, 20 position, 2.7mm height receptacle connector; Manufacturer: Amphenol; Manufacturer Part Number: 10132798-022100LF
footprint 10132798-022100LF
pins: 1, 2, 3, 4, 5, 6, 7, 8, 9, 10, 11, 12, 13, 14, 15, 16, 17, 18, 19, 20, MP
text: Amphenol Bergstak 20P 0.5mm; Receptacle

## 10132798-032100LF
designator J?
BergStak® 0.5mm Mezzanine Connector, Board To Board Connectors, 30 position, 2.7mm height receptacle connector; Manufacturer: Amphenol; Manufacturer Part Number: 10132798-032100LF
footprint 10132798-032100LF
pins: 1, 2, 3, 4, 5, 6, 7, 8, 9, 10, 11, 12, 13, 14, 15, 16, 17, 18, 19, 20, 21, 22, 23, 24, 25, 26, 27, 28, 29, 30, MP
text: Receptacle; Amphenol Bergstak 30P 0.5mm

## 10132798-042100LF
designator J?
BergStak® 0.5mm Mezzanine Connector, Board To Board Connectors, 40 position, 2.7mm height receptacle connector; Manufacturer: Amphenol; Manufacturer Part Number: 10132798-042100LF
footprint 10132798-042100LF
pins: 1, 2, 3, 4, 5, 6, 7, 8, 9, 10, 11, 12, 13, 14, 15, 16, 17, 18, 19, 20, 21, 22, 23, 24, 25, 26, 27, 28, 29, 30, 31, 32, 33, 34, 35, 36, 37, 38, 39, 40, MP
text: Receptacle; Amphenol Bergstak 40P 0.5mm

## 10132798-062100LF
designator J?
BergStak® 0.5mm Mezzanine Connector, Board To Board Connectors, 60 position, 2.7mm height receptacle connector; Manufacturer: Amphenol; Manufacturer Part Number: 10132798-062100LF
footprint 10132798-062100LF
pins: 1, 2, 3, 4, 5, 6, 7, 8, 9, 10, 11, 12, 13, 14, 15, 16, 17, 18, 19, 20, 21, 22, 23, 24, 25, 26, 27, 28, 29, 30, 31, 32, 33, 34, 35, 36, 37, 38, 39, 40, 41, 42, 43, 44, 45, 46, 47, 48, 49, 50, 51, 52, 53, 54, 55, 56, 57, 58, 59, 60, MP
text: Receptacle; Amphenol Bergstak 60P 0.5mm

## 10144517-042802LF
designator J?
BergStak Lite 0.80mm Board-to-Board Connector 40 Position Dual Row Vertical Receptacle 7.7mm Stack Height; Manufacturer: Amphenol; Manufacturer Part Number: 10144517-042802LF
footprint 10144517-042802LF
pins: 1, 2, 3, 4, 5, 6, 7, 8, 9, 10, 11, 12, 13, 14, 15, 16, 17, 18, 19, 20, 21, 22, 23, 24, 25, 26, 27, 28, 29, 30, 31, 32, 33, 34, 35, 36, 37, 38, 39, 40

## 10144517-043802LF
designator J?
BergStak Lite 0.80mm Board-to-Board Connector 40 Position Dual Row Vertical Receptacle 11.7mm Stack Height; Manufacturer: Amphenol; Manufacturer Part Number: 10144517-043802LF
footprint 10144517-043802LF
pins: 1, 2, 3, 4, 5, 6, 7, 8, 9, 10, 11, 12, 13, 14, 15, 16, 17, 18, 19, 20, 21, 22, 23, 24, 25, 26, 27, 28, 29, 30, 31, 32, 33, 34, 35, 36, 37, 38, 39, 40

## 10144517-044802LF
designator J?
BergStak Lite 0.80mm Board-to-Board Connector 40 Position Dual Row Vertical Receptacle 15.7mm Stack Height; Manufacturer: Amphenol; Manufacturer Part Number: 10144517-044802LF
footprint 10144517-044802LF
pins: 1, 2, 3, 4, 5, 6, 7, 8, 9, 10, 11, 12, 13, 14, 15, 16, 17, 18, 19, 20, 21, 22, 23, 24, 25, 26, 27, 28, 29, 30, 31, 32, 33, 34, 35, 36, 37, 38, 39, 40

## 10144517-062802LF
designator J?
BergStak Lite 0.80mm, Board-to-Board Connector, 60 Positions, Dual Row, Vertical Receptacle; Manufacturer: Amphenol; Manufacturer Part Number: 10144517-062802LF
footprint 10144517-062802LF
pins: 1, 2, 3, 4, 5, 6, 7, 8, 9, 10, 11, 12, 13, 14, 15, 16, 17, 18, 19, 20, 21, 22, 23, 24, 25, 26, 27, 28, 29, 30, 31, 32, 33, 34, 35, 36, 37, 38, 39, 40, 41, 42, 43, 44, 45, 46, 47, 48, 49, 50, 51, 52, 53, 54, 55, 56, 57, 58, 59, 60

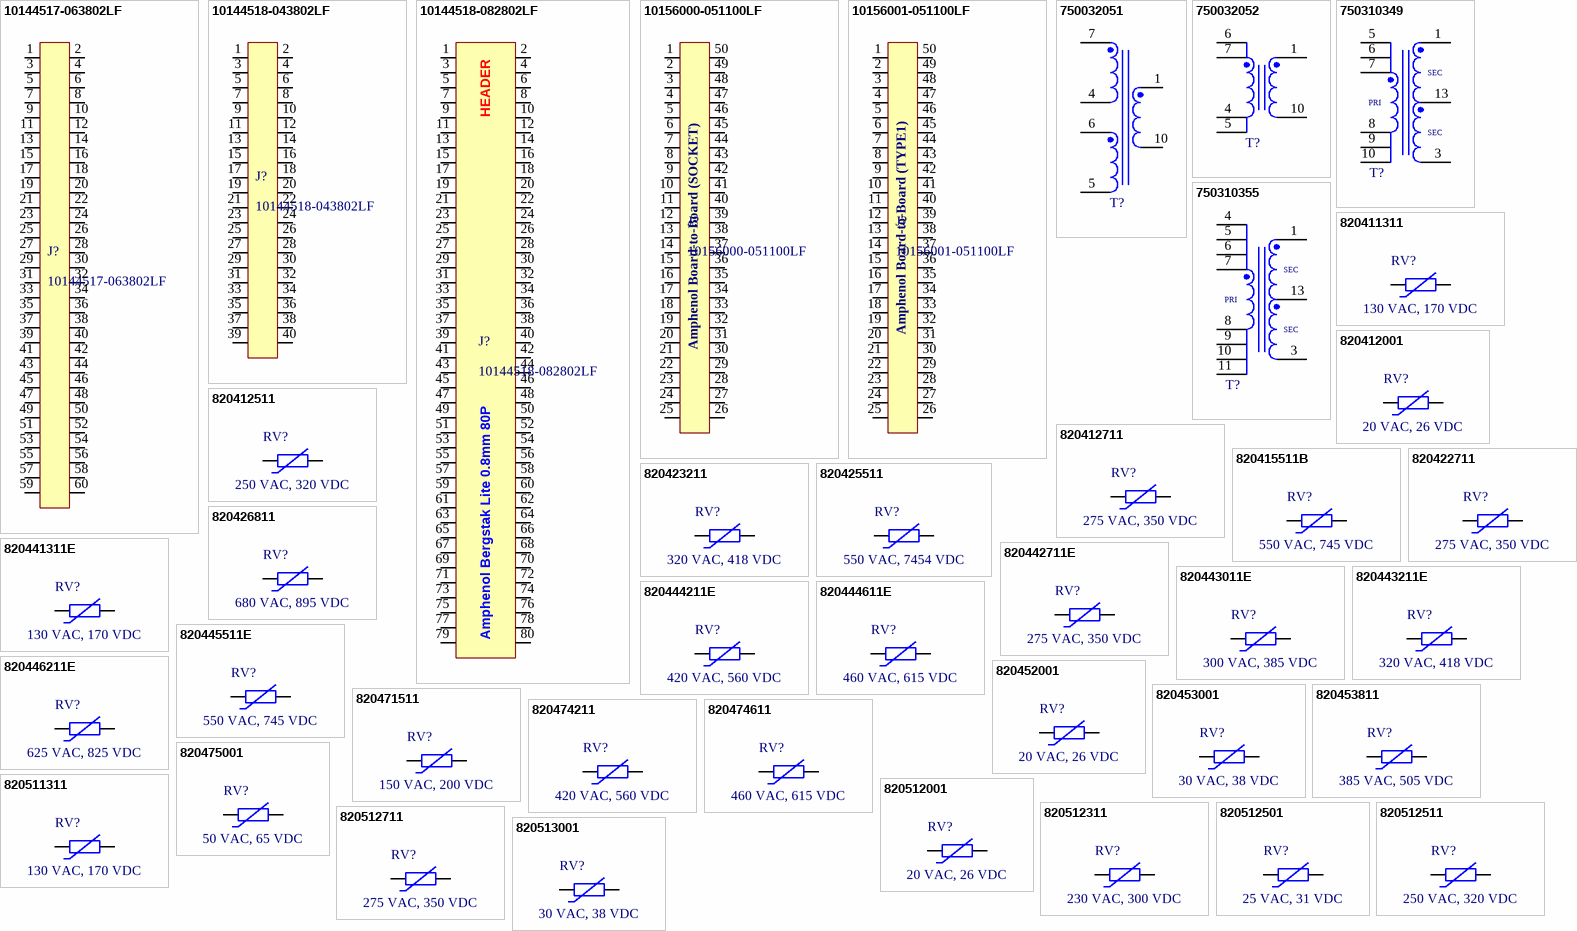
[diagram p3: symbols 10144517-063802LF to 820513001]

## 10144517-063802LF
designator J?
BergStak Lite 0.80mm, Board-to-Board Connector, 60 Positions, Dual Row, Vertical Receptacle; Manufacturer: Amphenol; Manufacturer Part Number: 10144517-063802LF
footprint 10144517-063802LF
pins: 1, 2, 3, 4, 5, 6, 7, 8, 9, 10, 11, 12, 13, 14, 15, 16, 17, 18, 19, 20, 21, 22, 23, 24, 25, 26, 27, 28, 29, 30, 31, 32, 33, 34, 35, 36, 37, 38, 39, 40, 41, 42, 43, 44, 45, 46, 47, 48, 49, 50, 51, 52, 53, 54, 55, 56, 57, 58, 59, 60

## 10144518-043802LF
designator J?
BergStak Lite 0.80mm Board-to-Board Connector 40 Position Dual Row Vertical Header; Manufacturer: Amphenol; Manufacturer Part Number: 10144518-043802LF
footprint 10144518-043802LF
pins: 1, 2, 3, 4, 5, 6, 7, 8, 9, 10, 11, 12, 13, 14, 15, 16, 17, 18, 19, 20, 21, 22, 23, 24, 25, 26, 27, 28, 29, 30, 31, 32, 33, 34, 35, 36, 37, 38, 39, 40

## 10144518-082802LF
designator J?
BergStak® Lite 0.80mm, Board-to-Board Connector, 80 Positions, Dual Row, Vertical Header; Manufacturer: Amphenol; Manufacturer Part Number: 10144518-082802LF
footprint 10144518-082802LF
pins: 1, 2, 3, 4, 5, 6, 7, 8, 9, 10, 11, 12, 13, 14, 15, 16, 17, 18, 19, 20, 21, 22, 23, 24, 25, 26, 27, 28, 29, 30, 31, 32, 33, 34, 35, 36, 37, 38, 39, 40, 41, 42, 43, 44, 45, 46, 47, 48, 49, 50, 51, 52, 53, 54, 55, 56, 57, 58, 59, 60, 61, 62, 63, 64, 65, 66, 67, 68, 69, 70, 71, 72, 73, 74, 75, 76, 77, 78, 79, 80
text: HEADER; Amphenol Bergstak Lite 0.8mm 80P

## 10156000-051100LF
designator J?
Board-to-Board Connector 0.5mm Pitch 50 Position 2 Row; Manufacturer: Amphenol FCI; Manufacturer Part Number: 10156000-051100LF
footprint 10156000-051100LF
pins: 1, 2, 3, 4, 5, 6, 7, 8, 9, 10, 11, 12, 13, 14, 15, 16, 17, 18, 19, 20, 21, 22, 23, 24, 25, 26, 27, 28, 29, 30, 31, 32, 33, 34, 35, 36, 37, 38, 39, 40, 41, 42, 43, 44, 45, 46, 47, 48, 49, 50
text: Amphenol Board-to-Board (SOCKET)

## 10156001-051100LF
designator J?
Board-to-Board Connector 0.5mm Pitch 50 Position 2 Row; Manufacturer: Amphenol FCI; Manufacturer Part Number: 10156001-051100LF
footprint 10156001-051100LF
pins: 1, 2, 3, 4, 5, 6, 7, 8, 9, 10, 11, 12, 13, 14, 15, 16, 17, 18, 19, 20, 21, 22, 23, 24, 25, 26, 27, 28, 29, 30, 31, 32, 33, 34, 35, 36, 37, 38, 39, 40, 41, 42, 43, 44, 45, 46, 47, 48, 49, 50
text: Amphenol Board-to-Board (TYPE1)

## 750032051
designator T?, comment 18-30Vin  (value not drawn)
WE-FB 3751 Flyback Transformer suitable for 3751, SMT, EFD20, 18-30Vin, 10uH; Manufacturer Part Number: 750032051; Manufacturer: Wurth Elektronik; IC Reference: LT3751; Input Voltage: 18-30VDC; Insulation Test Voltage: 1000VAC; Leakage Inductance: 0.05uH; Turns Ratio: 1:10; Category: Transformers For DC-DC Converter; Match Code: WE-FB 3751; ComponentLink1Description: Website Link; ComponentLink1URL: https://www.we-online.com/redexpert/article/750032051?ad; ComponentLink2Description: Datasheet Link; ComponentLink2URL: https://www.we-online.com/redexpert/spec/750032051?ad; Mount: Surface Mount; Operating Temperature Max: 125°C; Operating Temperature Min: -40°C; Packaging: Tape and Reel; Case/Size Code: EFD20; Length: 28.7mm; Width: 21.97mm; Height: 11.43mm; Inductance: 10uH
footprint WE-FB 3751_EFD20
simulation model 750032051
pins: 1, 4, 5, 6, 7, 10

## 750032052
designator T?, comment 18-30Vin  (value not drawn)
WE-FB 3751 Flyback Transformer suitable for 3751, SMT, EFD20, 18-30Vin, 10uH; Manufacturer Part Number: 750032052; Manufacturer: Wurth Elektronik; IC Reference: LT3751; Input Voltage: 18-30VDC; Insulation Test Voltage: 1000VAC; Leakage Inductance: 0.3uH; Turns Ratio: 1:10; Category: Transformers For DC-DC Converter; Match Code: WE-FB 3751; ComponentLink1Description: Website Link; ComponentLink1URL: https://www.we-online.com/redexpert/article/750032052?ad; ComponentLink2Description: Datasheet Link; ComponentLink2URL: https://www.we-online.com/redexpert/spec/750032052?ad; Mount: Surface Mount; Operating Temperature Max: 125°C; Operating Temperature Min: -40°C; Packaging: Tape and Reel; Case/Size Code: EFD20; Length: 28.7mm; Width: 21.97mm; Height: 11.43mm; Inductance: 10uH
footprint WE-FB 3751_EFD20
simulation model 750032052
pins: 1, 4, 5, 6, 7, 10

## 750310349
designator T?, comment 18-30Vin  (value not drawn)
WE-FB 3751 Flyback Transformer suitable for 3751, THT, EE35/18/10, 18-30Vin, 5uH; Manufacturer Part Number: 750310349; Manufacturer: Wurth Elektronik; IC Reference: LT3751; Input Voltage: 18-30VDC; Insulation Test Voltage: 1250VAC; Leakage Inductance: 0.1uH; Turns Ratio: 1:10; Category: Transformers For DC-DC Converter; Match Code: WE-FB 3751; ComponentLink1Description: Website Link; ComponentLink1URL: https://www.we-online.com/redexpert/article/750310349?ad; ComponentLink2Description: Datasheet Link; ComponentLink2URL: https://www.we-online.com/redexpert/spec/750310349?ad; Mount: Through Hole; Operating Temperature Max: 125°C; Operating Temperature Min: -40°C; Packaging: Tray; Case/Size Code: EE35/18/10; Length: 42mm; Width: 36.5mm; Height: 23mm; Inductance: 5uH
footprint WE-FB 3751_EE35/18/10
simulation model 750310349
pins: 1, 3, 5, 6, 7, 8, 9, 10, 13
text: SEC; PRI

## 750310355
designator T?, comment 18-30Vin  (value not drawn)
WE-FB 3751 Flyback Transformer suitable for 3751, THT, EE35/18/10, 18-30Vin, 2.5uH; Manufacturer Part Number: 750310355; Manufacturer: Wurth Elektronik; IC Reference: LT3751; Input Voltage: 18-30VDC; Insulation Test Voltage: 1250VAC; Leakage Inductance: 0.1uH; Turns Ratio: 1:10; Category: Transformers For DC-DC Converter; Match Code: WE-FB 3751; ComponentLink1Description: Website Link; ComponentLink1URL: https://www.we-online.com/redexpert/article/750310355?ad; ComponentLink2Description: Datasheet Link; ComponentLink2URL: https://www.we-online.com/redexpert/spec/750310355?ad; Mount: Through Hole; Operating Temperature Max: 125°C; Operating Temperature Min: -40°C; Packaging: Tray; Case/Size Code: EE35/18/10; Length: 42mm; Width: 36.5mm; Height: 23mm; Inductance: 2.5uH
footprint WE-FB 3751_EE35/18/10
simulation model 750310355
pins: 1, 3, 4, 5, 6, 7, 8, 9, 10, 11, 13
text: SEC; PRI

## 820411311
designator RV?, comment 130 VAC, 170 VDC
WE-VD Disk Varistor, D12.5 x H15.5 mm, 130 VAC, 170 VDC; Manufacturer Part Number: 820411311; Manufacturer: Wurth Elektronik; Channel Input Capacitance: 410 pF; Clamping Voltage: 340 V; Energy Absorption: 35 J; Operating Voltage (AC): 130 V; Operating Voltage (DC): 170 V; Power Dissipation: 0.4 W; (Reverse) Breakdown Voltage: 200 V; (Reverse) Peak Pulse Current: 3500 A; Category: Surge Protection; Match Code: WE-VD; ComponentLink1Description: Website Link; ComponentLink1URL: https://www.we-online.com/redexpert/article/820411311?ad; ComponentLink2Description: Datasheet Link; ComponentLink2URL: https://www.we-online.com/redexpert/spec/820411311?ad; Mount: Through Hole; Min Operating Temperature: -40 °C; Max Operating Temperature: 105 °C; Packaging: Tape and Reel; Width: 4.6 mm; Height: 15.5 mm; Diameter: 12.5 mm
footprint D12.5W4.6H15.5P0.8
pins: 1, 2

## 820412001
designator RV?, comment 20 VAC, 26 VDC
WE-VD Disk Varistor, D12.5 x H15.5 mm, 20 VAC, 26 VDC; Manufacturer Part Number: 820412001; Manufacturer: Wurth Elektronik; Channel Input Capacitance: 4250 pF; Clamping Voltage: 65 V; Energy Absorption: 4.8 J; Operating Voltage (AC): 20 V; Operating Voltage (DC): 26 V; Power Dissipation: 0.05 W; (Reverse) Breakdown Voltage: 33 V; (Reverse) Peak Pulse Current: 1000 A; Category: Surge Protection; Match Code: WE-VD; ComponentLink1Description: Website Link; ComponentLink1URL: https://www.we-online.com/redexpert/article/820412001?ad; ComponentLink2Description: Datasheet Link; ComponentLink2URL: https://www.we-online.com/redexpert/spec/820412001?ad; Mount: Through Hole; Min Operating Temperature: -40 °C; Max Operating Temperature: 105 °C; Packaging: Tape and Reel; Width: 5.1 mm; Height: 15.5 mm; Diameter: 12.5 mm
footprint D12.5W5.1H15.5P0.8
pins: 1, 2

## 820412511
designator RV?, comment 250 VAC, 320 VDC
WE-VD Disk Varistor, D12.5 x H16 mm, 250 VAC, 320 VDC; Manufacturer Part Number: 820412511; Manufacturer: Wurth Elektronik; Channel Input Capacitance: 210 pF; Clamping Voltage: 650 V; Energy Absorption: 70 J; Operating Voltage (AC): 250 V; Operating Voltage (DC): 320 V; Power Dissipation: 0.4 W; (Reverse) Breakdown Voltage: 390 V; (Reverse) Peak Pulse Current: 3500 A; Category: Surge Protection; Match Code: WE-VD; ComponentLink1Description: Website Link; ComponentLink1URL: https://www.we-online.com/redexpert/article/820412511?ad; ComponentLink2Description: Datasheet Link; ComponentLink2URL: https://www.we-online.com/redexpert/spec/820412511?ad; Mount: Through Hole; Min Operating Temperature: -40 °C; Max Operating Temperature: 105 °C; Packaging: Tape and Reel; Width: 5.7 mm; Height: 16 mm; Diameter: 12.5 mm
footprint D12.5W5.7H16P1.1
pins: 1, 2

## 820412711
designator RV?, comment 275 VAC, 350 VDC
WE-VD Disk Varistor, D12.5 x H16 mm, 275 VAC, 350 VDC; Manufacturer Part Number: 820412711; Manufacturer: Wurth Elektronik; Channel Input Capacitance: 190 pF; Clamping Voltage: 710 V; Energy Absorption: 80 J; Operating Voltage (AC): 275 V; Operating Voltage (DC): 350 V; Power Dissipation: 0.4 W; (Reverse) Breakdown Voltage: 430 V; (Reverse) Peak Pulse Current: 3500 A; Category: Surge Protection; Match Code: WE-VD; ComponentLink1Description: Website Link; ComponentLink1URL: https://www.we-online.com/redexpert/article/820412711?ad; ComponentLink2Description: Datasheet Link; ComponentLink2URL: https://www.we-online.com/redexpert/spec/820412711?ad; Mount: Through Hole; Min Operating Temperature: -40 °C; Max Operating Temperature: 105 °C; Packaging: Tape and Reel; Width: 6.5 mm; Height: 16 mm; Diameter: 12.5 mm
footprint D12.5W6.5H16P1.3
pins: 1, 2

## 820415511B
designator RV?, comment 550 VAC, 745 VDC
WE-VD Disk Varistor, D12.5 x H16.5 mm, 550 VAC, 745 VDC; Manufacturer Part Number: 820415511B; Manufacturer: Wurth Elektronik; Channel Input Capacitance: 95 pF; Clamping Voltage: 1500 V; Energy Absorption: 127 J; Operating Voltage (AC): 550 V; Operating Voltage (DC): 745 V; Power Dissipation: 0.4 W; (Reverse) Breakdown Voltage: 910 V; (Reverse) Peak Pulse Current: 3500 A; Category: Surge Protection; Match Code: WE-VD; ComponentLink1Description: Website Link; ComponentLink1URL: https://www.we-online.com/redexpert/article/820415511B?ad; ComponentLink2Description: Datasheet Link; ComponentLink2URL: https://www.we-online.com/redexpert/spec/820415511B?ad; Mount: Through Hole; Min Operating Temperature: -40 °C; Max Operating Temperature: 105 °C; Packaging: Tape and Reel; Width: 9.4 mm; Height: 16.5 mm; Diameter: 12.5 mm
footprint D12.5W9.4H16.5P3.6
pins: 1, 2

## 820422711
designator RV?, comment 275 VAC, 350 VDC
WE-VD Disk Varistor, D23 x H26.5 mm, 275 VAC, 350 VDC; Manufacturer Part Number: 820422711; Manufacturer: Wurth Elektronik; Channel Input Capacitance: 860 pF; Clamping Voltage: 710 V; Energy Absorption: 303 J; Operating Voltage (AC): 275 V; Operating Voltage (DC): 350 V; Power Dissipation: 1 W; (Reverse) Breakdown Voltage: 430 V; (Reverse) Peak Pulse Current: 10000 A; Category: Surge Protection; Match Code: WE-VD; ComponentLink1Description: Website Link; ComponentLink1URL: https://www.we-online.com/redexpert/article/820422711?ad; ComponentLink2Description: Datasheet Link; ComponentLink2URL: https://www.we-online.com/redexpert/spec/820422711?ad; Mount: Through Hole; Min Operating Temperature: -40 °C; Max Operating Temperature: 105 °C; Packaging: Tape and Reel; Width: 7.2 mm; Height: 26.5 mm; Diameter: 23 mm
footprint D23W7.2H26.5P1.1
pins: 1, 2

## 820423211
designator RV?, comment 320 VAC, 418 VDC
WE-VD Disk Varistor, D23 x H27 mm, 320 VAC, 418 VDC; Manufacturer Part Number: 820423211; Manufacturer: Wurth Elektronik; Channel Input Capacitance: 760 pF; Clamping Voltage: 842 V; Energy Absorption: 382 J; Operating Voltage (AC): 320 V; Operating Voltage (DC): 418 V; Power Dissipation: 1 W; (Reverse) Breakdown Voltage: 510 V; (Reverse) Peak Pulse Current: 10000 A; Category: Surge Protection; Match Code: WE-VD; ComponentLink1Description: Website Link; ComponentLink1URL: https://www.we-online.com/redexpert/article/820423211?ad; ComponentLink2Description: Datasheet Link; ComponentLink2URL: https://www.we-online.com/redexpert/spec/820423211?ad; Mount: Through Hole; Min Operating Temperature: -40 °C; Max Operating Temperature: 105 °C; Packaging: Tape and Reel; Width: 7.7 mm; Height: 27 mm; Diameter: 23 mm
footprint D23W7.7H27P1.5
pins: 1, 2

## 820425511
designator RV?, comment 550 VAC, 7454 VDC
WE-VD Disk Varistor, D23 x H27 mm, 550 VAC, 7454 VDC; Manufacturer Part Number: 820425511; Manufacturer: Wurth Elektronik; Channel Input Capacitance: 430 pF; Clamping Voltage: 1500 V; Energy Absorption: 510 J; Operating Voltage (AC): 550 V; Operating Voltage (DC): 7454 V; Power Dissipation: 1 W; (Reverse) Breakdown Voltage: 910 V; (Reverse) Peak Pulse Current: 10000 A; Category: Surge Protection; Match Code: WE-VD; ComponentLink1Description: Website Link; ComponentLink1URL: https://www.we-online.com/redexpert/article/820425511?ad; ComponentLink2Description: Datasheet Link; ComponentLink2URL: https://www.we-online.com/redexpert/spec/820425511?ad; Mount: Through Hole; Min Operating Temperature: -40 °C; Max Operating Temperature: 105 °C; Packaging: Tape and Reel; Width: 10.1 mm; Height: 27 mm; Diameter: 23 mm
footprint D23W10.1H27P3.4
pins: 1, 2

## 820426811
designator RV?, comment 680 VAC, 895 VDC
WE-VD Disk Varistor, D23 x H27 mm, 680 VAC, 895 VDC; Manufacturer Part Number: 820426811; Manufacturer: Wurth Elektronik; Channel Input Capacitance: 360 pF; Clamping Voltage: 1815 V; Energy Absorption: 620 J; Operating Voltage (AC): 680 V; Operating Voltage (DC): 895 V; Power Dissipation: 1 W; (Reverse) Breakdown Voltage: 1100 V; (Reverse) Peak Pulse Current: 10000 A; Category: Surge Protection; Match Code: WE-VD; ComponentLink1Description: Website Link; ComponentLink1URL: https://www.we-online.com/redexpert/article/820426811?ad; ComponentLink2Description: Datasheet Link; ComponentLink2URL: https://www.we-online.com/redexpert/spec/820426811?ad; Mount: Through Hole; Min Operating Temperature: -40 °C; Max Operating Temperature: 105 °C; Packaging: Tape and Reel; Width: 11.2 mm; Height: 27 mm; Diameter: 23 mm
footprint D23W11.2H27P4.3
pins: 1, 2

## 820441311E
designator RV?, comment 130 VAC, 170 VDC
WE-VD Disk Varistor, D16.5 x H19.5 mm, 130 VAC, 170 VDC; Manufacturer Part Number: 820441311E; Manufacturer: Wurth Elektronik; Channel Input Capacitance: 840 pF; Clamping Voltage: 340 V; Energy Absorption: 70 J; Operating Voltage (AC): 130 V; Operating Voltage (DC): 170 V; Power Dissipation: 0.6 W; (Reverse) Breakdown Voltage: 200 V; (Reverse) Peak Pulse Current: 6000 A; Category: Surge Protection; Match Code: WE-VD; ComponentLink1Description: Website Link; ComponentLink1URL: https://www.we-online.com/redexpert/article/820441311E?ad; ComponentLink2Description: Datasheet Link; ComponentLink2URL: https://www.we-online.com/redexpert/spec/820441311E?ad; Mount: Through Hole; Min Operating Temperature: -40 °C; Max Operating Temperature: 105 °C; Packaging: Tape and Reel; Width: 4.8 mm; Height: 19.5 mm; Diameter: 16.5 mm
footprint D16.5W4.8H19.5P0.8
pins: 1, 2

## 820442711E
designator RV?, comment 275 VAC, 350 VDC
WE-VD Disk Varistor, D16.5 x H20 mm, 275 VAC, 350 VDC; Manufacturer Part Number: 820442711E; Manufacturer: Wurth Elektronik; Channel Input Capacitance: 450 pF; Clamping Voltage: 710 V; Energy Absorption: 155 J; Operating Voltage (AC): 275 V; Operating Voltage (DC): 350 V; Power Dissipation: 0.6 W; (Reverse) Breakdown Voltage: 430 V; (Reverse) Peak Pulse Current: 6000 A; Category: Surge Protection; Match Code: WE-VD; ComponentLink1Description: Website Link; ComponentLink1URL: https://www.we-online.com/redexpert/article/820442711E?ad; ComponentLink2Description: Datasheet Link; ComponentLink2URL: https://www.we-online.com/redexpert/spec/820442711E?ad; Mount: Through Hole; Min Operating Temperature: -40 °C; Max Operating Temperature: 105 °C; Packaging: Tape and Reel; Width: 6.7 mm; Height: 20 mm; Diameter: 16.5 mm
footprint D16.5W6.7H20P1.3
pins: 1, 2

## 820443011E
designator RV?, comment 300 VAC, 385 VDC
WE-VD Disk Varistor, D16.5 x H20 mm, 300 VAC, 385 VDC; Manufacturer Part Number: 820443011E; Manufacturer: Wurth Elektronik; Channel Input Capacitance: 420 pF; Clamping Voltage: 775 V; Energy Absorption: 175 J; Operating Voltage (AC): 300 V; Operating Voltage (DC): 385 V; Power Dissipation: 0.6 W; (Reverse) Breakdown Voltage: 470 V; (Reverse) Peak Pulse Current: 6000 A; Category: Surge Protection; Match Code: WE-VD; ComponentLink1Description: Website Link; ComponentLink1URL: https://www.we-online.com/redexpert/article/820443011E?ad; ComponentLink2Description: Datasheet Link; ComponentLink2URL: https://www.we-online.com/redexpert/spec/820443011E?ad; Mount: Through Hole; Min Operating Temperature: -40 °C; Max Operating Temperature: 105 °C; Packaging: Tape and Reel; Width: 7 mm; Height: 20 mm; Diameter: 16.5 mm
footprint D16.5W7H20P1.5
pins: 1, 2

## 820443211E
designator RV?, comment 320 VAC, 418 VDC
WE-VD Disk Varistor, D16.5 x H20.5 mm, 320 VAC, 418 VDC; Manufacturer Part Number: 820443211E; Manufacturer: Wurth Elektronik; Channel Input Capacitance: 370 pF; Clamping Voltage: 842 V; Energy Absorption: 190 J; Operating Voltage (AC): 320 V; Operating Voltage (DC): 418 V; Power Dissipation: 0.6 W; (Reverse) Breakdown Voltage: 510 V; (Reverse) Peak Pulse Current: 6000 A; Category: Surge Protection; Match Code: WE-VD; ComponentLink1Description: Website Link; ComponentLink1URL: https://www.we-online.com/redexpert/article/820443211E?ad; ComponentLink2Description: Datasheet Link; ComponentLink2URL: https://www.we-online.com/redexpert/spec/820443211E?ad; Mount: Through Hole; Min Operating Temperature: -40 °C; Max Operating Temperature: 105 °C; Packaging: Tape and Reel; Width: 7.2 mm; Height: 20.5 mm; Diameter: 16.5 mm
footprint D16.5W7.2H20.5P1.6
pins: 1, 2

## 820444211E
designator RV?, comment 420 VAC, 560 VDC
WE-VD Disk Varistor, D16.5 x H20.5 mm, 420 VAC, 560 VDC; Manufacturer Part Number: 820444211E; Manufacturer: Wurth Elektronik; Channel Input Capacitance: 290 pF; Clamping Voltage: 1120 V; Energy Absorption: 225 J; Operating Voltage (AC): 420 V; Operating Voltage (DC): 560 V; Power Dissipation: 0.6 W; (Reverse) Breakdown Voltage: 680 V; (Reverse) Peak Pulse Current: 6000 A; Category: Surge Protection; Match Code: WE-VD; ComponentLink1Description: Website Link; ComponentLink1URL: https://www.we-online.com/redexpert/article/820444211E?ad; ComponentLink2Description: Datasheet Link; ComponentLink2URL: https://www.we-online.com/redexpert/spec/820444211E?ad; Mount: Through Hole; Min Operating Temperature: -40 °C; Max Operating Temperature: 105 °C; Packaging: Tape and Reel; Width: 8.2 mm; Height: 20.5 mm; Diameter: 16.5 mm
footprint D16.5W8.2H20.5P2.5
pins: 1, 2

## 820444611E
designator RV?, comment 460 VAC, 615 VDC
WE-VD Disk Varistor, D16.5 x H20.5 mm, 460 VAC, 615 VDC; Manufacturer Part Number: 820444611E; Manufacturer: Wurth Elektronik; Channel Input Capacitance: 270 pF; Clamping Voltage: 1240 V; Energy Absorption: 230 J; Operating Voltage (AC): 460 V; Operating Voltage (DC): 615 V; Power Dissipation: 0.6 W; (Reverse) Breakdown Voltage: 750 V; (Reverse) Peak Pulse Current: 6000 A; Category: Surge Protection; Match Code: WE-VD; ComponentLink1Description: Website Link; ComponentLink1URL: https://www.we-online.com/redexpert/article/820444611E?ad; ComponentLink2Description: Datasheet Link; ComponentLink2URL: https://www.we-online.com/redexpert/spec/820444611E?ad; Mount: Through Hole; Min Operating Temperature: -40 °C; Max Operating Temperature: 105 °C; Packaging: Tape and Reel; Width: 8.6 mm; Height: 20.5 mm; Diameter: 16.5 mm
footprint D16.5W8.6H20.5P2.8
pins: 1, 2

## 820445511E
designator RV?, comment 550 VAC, 745 VDC
WE-VD Disk Varistor, D16.5 x H20.5 mm, 550 VAC, 745 VDC; Manufacturer Part Number: 820445511E; Manufacturer: Wurth Elektronik; Channel Input Capacitance: 240 pF; Clamping Voltage: 1500 V; Energy Absorption: 255 J; Operating Voltage (AC): 550 V; Operating Voltage (DC): 745 V; Power Dissipation: 0.6 W; (Reverse) Breakdown Voltage: 910 V; (Reverse) Peak Pulse Current: 6000 A; Category: Surge Protection; Match Code: WE-VD; ComponentLink1Description: Website Link; ComponentLink1URL: https://www.we-online.com/redexpert/article/820445511E?ad; ComponentLink2Description: Datasheet Link; ComponentLink2URL: https://www.we-online.com/redexpert/spec/820445511E?ad; Mount: Through Hole; Min Operating Temperature: -40 °C; Max Operating Temperature: 105 °C; Packaging: Tape and Reel; Width: 9.6 mm; Height: 20.5 mm; Diameter: 16.5 mm
footprint D16.5W9.6H20.5P3.6
pins: 1, 2

## 820446211E
designator RV?, comment 625 VAC, 825 VDC
WE-VD Disk Varistor, D16.5 x H20.5 mm, 625 VAC, 825 VDC; Manufacturer Part Number: 820446211E; Manufacturer: Wurth Elektronik; Channel Input Capacitance: 200 pF; Clamping Voltage: 1650 V; Energy Absorption: 283 J; Operating Voltage (AC): 625 V; Operating Voltage (DC): 825 V; Power Dissipation: 0.6 W; (Reverse) Breakdown Voltage: 1000 V; (Reverse) Peak Pulse Current: 6000 A; Category: Surge Protection; Match Code: WE-VD; ComponentLink1Description: Website Link; ComponentLink1URL: https://www.we-online.com/redexpert/article/820446211E?ad; ComponentLink2Description: Datasheet Link; ComponentLink2URL: https://www.we-online.com/redexpert/spec/820446211E?ad; Mount: Through Hole; Min Operating Temperature: -40 °C; Max Operating Temperature: 105 °C; Packaging: Tape and Reel; Width: 10.1 mm; Height: 20.5 mm; Diameter: 16.5 mm
footprint D16.5W10.1H20.5P4
pins: 1, 2

## 820452001
designator RV?, comment 20 VAC, 26 VDC
WE-VD Disk Varistor, D7.5 x H10.5 mm, 20 VAC, 26 VDC; Manufacturer Part Number: 820452001; Manufacturer: Wurth Elektronik; Channel Input Capacitance: 880 pF; Clamping Voltage: 73 V; Energy Absorption: 1.3 J; Operating Voltage (AC): 20 V; Operating Voltage (DC): 26 V; Power Dissipation: 0.01 W; (Reverse) Breakdown Voltage: 33 V; (Reverse) Peak Pulse Current: 250 A; Category: Surge Protection; Match Code: WE-VD; ComponentLink1Description: Website Link; ComponentLink1URL: https://www.we-online.com/redexpert/article/820452001?ad; ComponentLink2Description: Datasheet Link; ComponentLink2URL: https://www.we-online.com/redexpert/spec/820452001?ad; Mount: Through Hole; Min Operating Temperature: -40 °C; Max Operating Temperature: 105 °C; Packaging: Tape and Reel; Width: 4.7 mm; Height: 10.5 mm; Diameter: 7.5 mm
footprint D7.5W4.7H10.5P0.8
pins: 1, 2

## 820453001
designator RV?, comment 30 VAC, 38 VDC
WE-VD Disk Varistor, D7.5 x H10.5 mm, 30 VAC, 38 VDC; Manufacturer Part Number: 820453001; Manufacturer: Wurth Elektronik; Channel Input Capacitance: 720 pF; Clamping Voltage: 104 V; Energy Absorption: 1.8 J; Operating Voltage (AC): 30 V; Operating Voltage (DC): 38 V; Power Dissipation: 0.01 W; (Reverse) Breakdown Voltage: 47 V; (Reverse) Peak Pulse Current: 250 A; Category: Surge Protection; Match Code: WE-VD; ComponentLink1Description: Website Link; ComponentLink1URL: https://www.we-online.com/redexpert/article/820453001?ad; ComponentLink2Description: Datasheet Link; ComponentLink2URL: https://www.we-online.com/redexpert/spec/820453001?ad; Mount: Through Hole; Min Operating Temperature: -40 °C; Max Operating Temperature: 105 °C; Packaging: Tape and Reel; Width: 5 mm; Height: 10.5 mm; Diameter: 7.5 mm
footprint D7.5W5H10.5P0.8
pins: 1, 2

## 820453811
designator RV?, comment 385 VAC, 505 VDC
WE-VD Disk Varistor, D7.5 x H11.5 mm, 385 VAC, 505 VDC; Manufacturer Part Number: 820453811; Manufacturer: Wurth Elektronik; Channel Input Capacitance: 45 pF; Clamping Voltage: 1050 V; Energy Absorption: 27 J; Operating Voltage (AC): 385 V; Operating Voltage (DC): 505 V; Power Dissipation: 0.1 W; (Reverse) Breakdown Voltage: 620 V; (Reverse) Peak Pulse Current: 800 A; Category: Surge Protection; Match Code: WE-VD; ComponentLink1Description: Website Link; ComponentLink1URL: https://www.we-online.com/redexpert/article/820453811?ad; ComponentLink2Description: Datasheet Link; ComponentLink2URL: https://www.we-online.com/redexpert/spec/820453811?ad; Mount: Through Hole; Min Operating Temperature: -40 °C; Max Operating Temperature: 105 °C; Packaging: Tape and Reel; Width: 7.2 mm; Height: 11.5 mm; Diameter: 7.5 mm
footprint D7.5W7.2H11.5P2.4
pins: 1, 2

## 820471511
designator RV?, comment 150 VAC, 200 VDC
WE-VD Disk Varistor, D9 x H12 mm, 150 VAC, 200 VDC; Manufacturer Part Number: 820471511; Manufacturer: Wurth Elektronik; Channel Input Capacitance: 180 pF; Clamping Voltage: 395 V; Energy Absorption: 21 J; Operating Voltage (AC): 150 V; Operating Voltage (DC): 200 V; Power Dissipation: 0.25 W; (Reverse) Breakdown Voltage: 240 V; (Reverse) Peak Pulse Current: 1750 A; Category: Surge Protection; Match Code: WE-VD; ComponentLink1Description: Website Link; ComponentLink1URL: https://www.we-online.com/redexpert/article/820471511?ad; ComponentLink2Description: Datasheet Link; ComponentLink2URL: https://www.we-online.com/redexpert/spec/820471511?ad; Mount: Through Hole; Min Operating Temperature: -40 °C; Max Operating Temperature: 105 °C; Packaging: Tape and Reel; Width: 4.4 mm; Height: 12 mm; Diameter: 9 mm
footprint D9W4.4H12P0.8
pins: 1, 2

## 820474211
designator RV?, comment 420 VAC, 560 VDC
WE-VD Disk Varistor, D9 x H13 mm, 420 VAC, 560 VDC; Manufacturer Part Number: 820474211; Manufacturer: Wurth Elektronik; Channel Input Capacitance: 78 pF; Clamping Voltage: 1120 V; Energy Absorption: 56 J; Operating Voltage (AC): 420 V; Operating Voltage (DC): 560 V; Power Dissipation: 0.25 W; (Reverse) Breakdown Voltage: 680 V; (Reverse) Peak Pulse Current: 1750 A; Category: Surge Protection; Match Code: WE-VD; ComponentLink1Description: Website Link; ComponentLink1URL: https://www.we-online.com/redexpert/article/820474211?ad; ComponentLink2Description: Datasheet Link; ComponentLink2URL: https://www.we-online.com/redexpert/spec/820474211?ad; Mount: Through Hole; Min Operating Temperature: -40 °C; Max Operating Temperature: 105 °C; Packaging: Tape and Reel; Width: 7.5 mm; Height: 13 mm; Diameter: 9 mm
footprint D9W7.5H13P2.7
pins: 1, 2